# EAGLE library part K6EBP (library relay-fujitsu)
RELAY Socked NAiS Source: http://www.mew-europe.com/.. en_ds_61013_0000.pdf
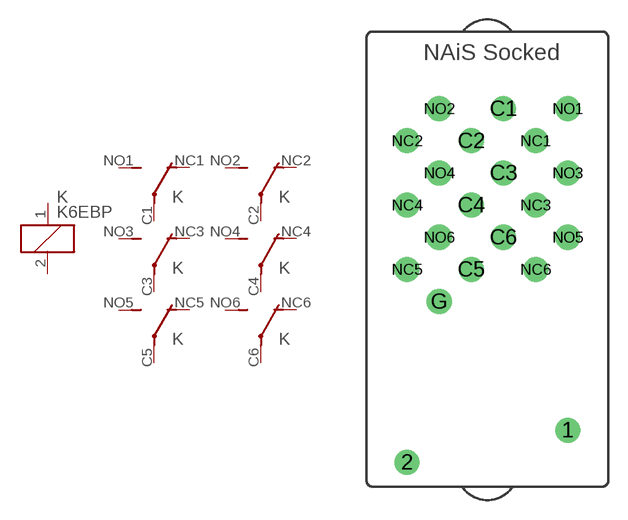
[diagram p65: symbol with the pads of K6-PS; footprint K6-PS]

Designator prefix K; gates _=K 1=U 2=U 3=U 4=U 5=U 6=U

## K6EBPS  [K6-PS]
1  _:1  pas
2  _:2  pas
C1  1:P  pas
C2  2:P  pas
C3  3:P  pas
C4  4:P  pas
C5  5:P  pas
C6  6:P  pas
NC1  1:O  pas
NC2  2:O  pas
NC3  3:O  pas
NC4  4:O  pas
NC5  5:O  pas
NC6  6:O  pas
NO1  1:S  pas
NO2  2:S  pas
NO3  3:S  pas
NO4  4:S  pas
NO5  5:S  pas
NO6  6:S  pas

## Footprint K6-PS (pad centres in mm)
RELAY Socked NAiS Source: http://www.mew-europe.com/.. en_ds_61013_0000.pdf
drill 1.3 round: 1 6.25,-6.25; 2 -6.25,-8.75; C1 1.25,18.75; C2 -1.25,16.25; C3 1.25,13.75; C4 -1.25,11.25; C5 -1.25,6.25; C6 1.25,8.75; G -3.75,3.75; NC1 3.75,16.25; NC2 -6.25,16.25; NC3 3.75,11.25; NC4 -6.25,11.25; NC5 -6.25,6.25; NC6 3.75,6.25; NO1 6.25,18.75; NO2 -3.75,18.75; NO3 6.25,13.75; NO4 -3.75,13.75; NO5 6.25,8.75; NO6 -3.75,8.75